# EAGLE library part DB-37 (library Generic connectors)
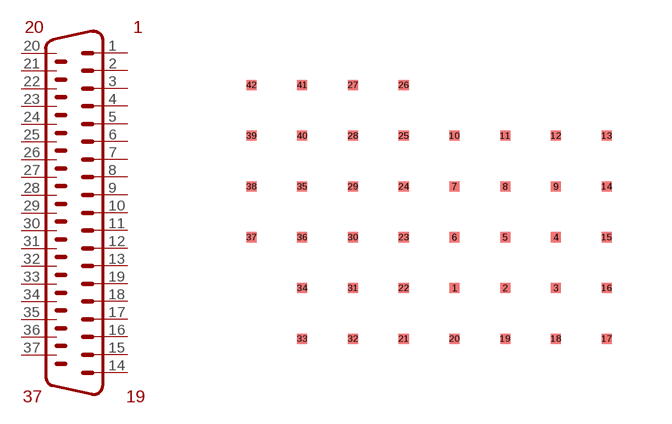
[diagram p0: symbol with the pads of NO-PACKAGE; footprint NO-PACKAGE]

Designator prefix -

## DB-37  [NO-PACKAGE]
1  1  pas
2  2  pas
3  3  pas
4  4  pas
5  5  pas
6  6  pas
7  7  pas
8  8  pas
9  9  pas
10  10  pas
11  11  pas
12  12  pas
13  13  pas
14  14  pas
15  15  pas
16  16  pas
17  17  pas
18  18  pas
19  19  pas
20  20  pas
21  21  pas
22  22  pas
23  23  pas
24  24  pas
25  25  pas
26  26  pas
27  27  pas
28  28  pas
29  29  pas
30  30  pas
31  31  pas
32  32  pas
33  33  pas
34  34  pas
35  35  pas
36  36  pas
37  37  pas

## Footprint NO-PACKAGE (pad centres in mm)
smd 0.254 x 0.254: 1 0,0; 2 1.27,0; 3 2.54,0; 4 2.54,1.27; 5 1.27,1.27; 6 0,1.27; 7 0,2.54; 8 1.27,2.54; 9 2.54,2.54; 10 0,3.81; 11 1.27,3.81; 12 2.54,3.81; 13 3.81,3.81; 14 3.81,2.54; 15 3.81,1.27; 16 3.81,0; 17 3.81,-1.27; 18 2.54,-1.27; 19 1.27,-1.27; 20 0,-1.27; 21 -1.27,-1.27; 22 -1.27,0; 23 -1.27,1.27; 24 -1.27,2.54; 25 -1.27,3.81; 26 -1.27,5.08; 27 -2.54,5.08; 28 -2.54,3.81; 29 -2.54,2.54; 30 -2.54,1.27; 31 -2.54,0; 32 -2.54,-1.27; 33 -3.81,-1.27; 34 -3.81,0; 35 -3.81,2.54; 36 -3.81,1.27; 37 -5.08,1.27; 38 -5.08,2.54; 39 -5.08,3.81; 40 -3.81,3.81; 41 -3.81,5.08; 42 -5.08,5.08